# EAGLE library part STEPDOWN-XL4016-NOPOWER (library alvie)
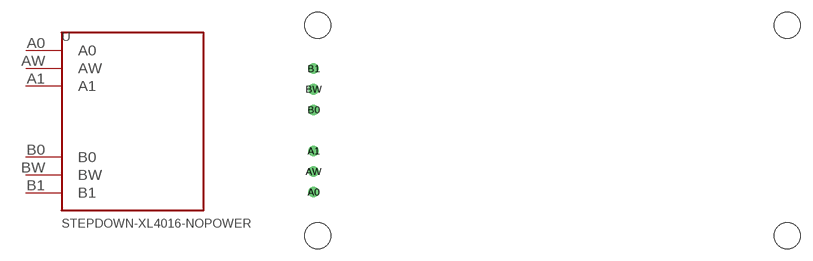
[diagram p16: symbol with the pads of STEPDOWN-XL4016-NOPOWER; footprint STEPDOWN-XL4016-NOPOWER]

Designator prefix -

## STEPDOWN-XL4016-NOPOWER  [STEPDOWN-XL4016-NOPOWER]
A0  A0  pas
A1  A1  pas
AW  AW  pas
B0  B0  pas
B1  B1  pas
BW  BW  pas

## Footprint STEPDOWN-XL4016-NOPOWER (pad centres in mm)
drill 0.8: A0 -1.56,-15.24; A1 -1.56,-10.16; AW -1.56,-12.7; B0 -1.56,-5.08; B1 -1.56,0; BW -1.56,-2.54
hole 3.2 at -1.06,-20.62
hole 3.2 at -1.06,5.38
hole 3.2 at 56.94,-20.62
hole 3.2 at 56.94,5.38